# EAGLE library part ISO3088 (library ISO-RS485)
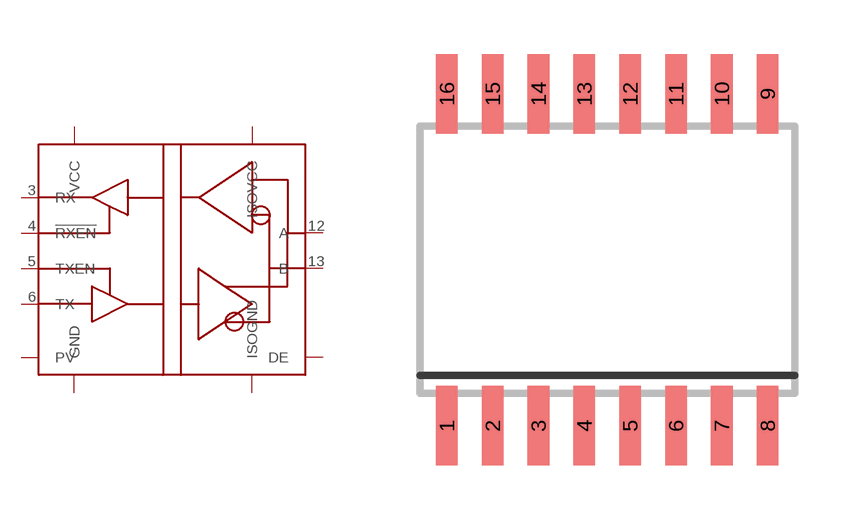
[diagram p1: symbol with the pads of SO-16DW; footprint SO-16DW]

Designator prefix IC

## ISO3088  [SO-16DW]
1  VCC  pwr
2  GND  pwr
3  RX  out
4  !RXEN  in
5  TXEN  in
6  TX  in
7  GND  pwr
8  GND  pwr
9  ISOGND  pwr
10  ISOGND  pwr
12  A
13  B
15  ISOGND  pwr
16  ISOVCC  pwr

## Footprint SO-16DW (pad centres in mm)
DW (RPDSO-G16) Source: http://focus.ti.com/lit/ds/symlink/iso1176.pdf
smd 0.6 x 2.2: 1 -4.445,-4.6; 2 -3.175,-4.6; 3 -1.905,-4.6; 4 -0.635,-4.6; 5 0.635,-4.6; 6 1.905,-4.6; 7 3.175,-4.6; 8 4.445,-4.6; 9 4.445,4.6; 10 3.175,4.6; 11 1.905,4.6; 12 0.635,4.6; 13 -0.635,4.6; 14 -1.905,4.6; 15 -3.175,4.6; 16 -4.445,4.6